# EAGLE library part PIC12F1840* (library Parts)
8-Pin フラッシュ マイクロコントローラ ■プログラムメモリサイズ : 4K words ■EEPROMサイズ : 256 bytes ■RAMサイズ : 256 bytes ■I/O数 : 5 ■電圧 - 電源 : 2.3 V～5.5 V ■動作温度 : -40°C～85°C
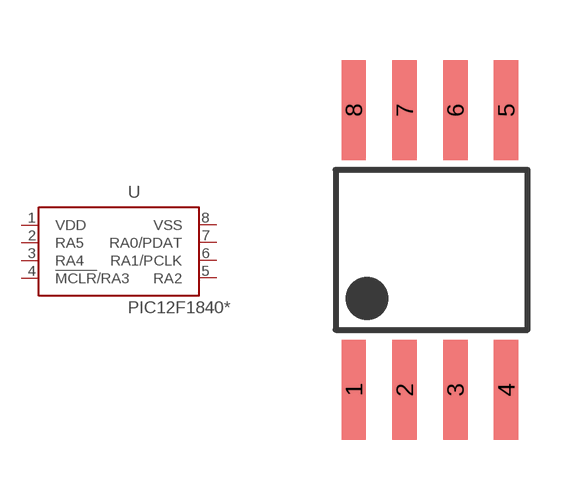
[diagram p0: symbol with the pads of SOP8-1.27; footprint SOP8-1.27]

Designator prefix U

## PIC12F1840T-I/SN  [SOP8-1.27]
1  VDD  pas
2  RA5
3  RA4
4  !MCLR!/RA3
5  RA2
6  RA1/PCLK
7  RA0/PDAT
8  VSS  pas

## Footprint SOP8-1.27 (pad centres in mm)
smd 0.61 x 2.5: 1 -1.945,-3.5; 2 -0.675,-3.5; 3 0.595,-3.5; 4 1.865,-3.5; 5 1.865,3.5; 6 0.595,3.5; 7 -0.675,3.5; 8 -1.945,3.5